# Altium schematic symbol library NPN.Schlib: 1 symbol
Pins are listed as number, name and electrical type; pins without a type are passive.

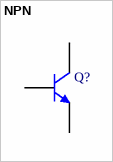
[diagram p0: symbol NPN]

## NPN
designator Q?
signal-integrity model Model Name (Model Description)
pins: 1 B, 2 E, 3 C